# EAGLE library part LMZ14202H (library motorFeedback)
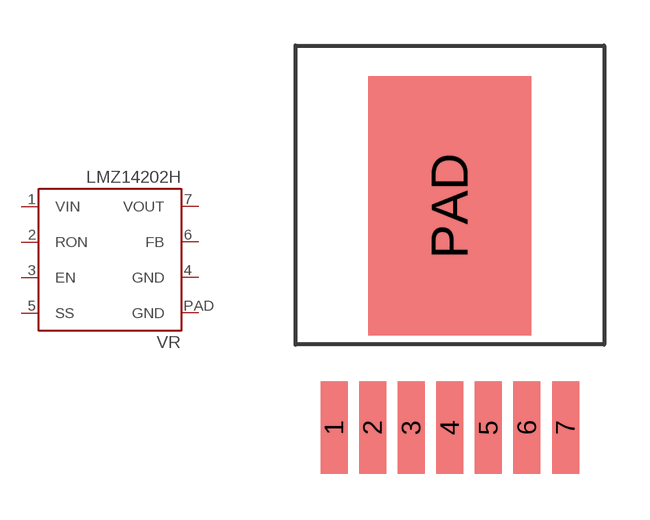
[diagram p28: symbol with the pads of PFM-7; footprint PFM-7]

Designator prefix VR

## LMZ14202HTZ  [PFM-7]
1  VIN
2  RON
3  EN
4  GND
5  SS
6  FB
7  VOUT
PAD  GND

## Footprint PFM-7 (pad centres in mm)
smd 0.889 x 3.048: 1 -3.81,-7.671; 2 -2.54,-7.671; 3 -1.27,-7.671; 4 0,-7.671; 5 1.27,-7.671; 6 2.54,-7.671; 7 3.81,-7.671
smd 5.359 x 8.534: PAD 0,-0.356